# EAGLE library part SJ-3506-SMT-TR (library Connectors)
CONN JACK STEREO 3.5MM SMD R/A Manufacturer's datasheet <https://www.cui.com/product/resource/digikeypdf/sj-3506-smt-tr.pdf>
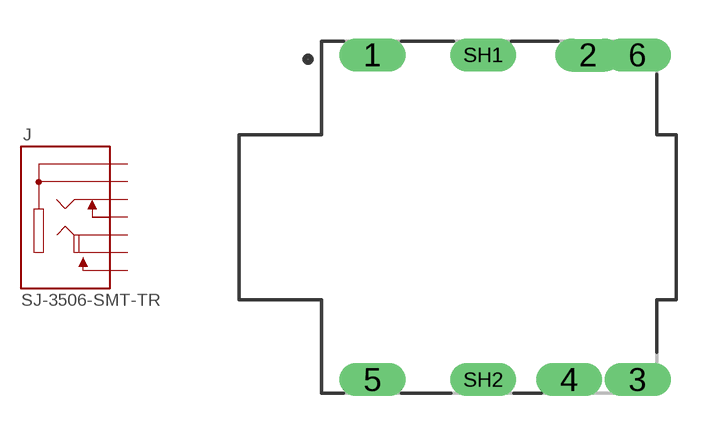
[diagram p7: symbol with the pads of SJ-3506-SMT-TR; footprint SJ-3506-SMT-TR]

Designator prefix J

## SJ-3506-SMT-TR (CREATED_BY: PCBLayout.com; DIGIKEY_PART_NUMBER: CP-3506SJCT-ND; MANUFACTURER: CUI Inc.; MPN: SJ-3506-SMT-TR)  [SJ-3506-SMT-TR]
1  1  pas
2  2  pas
3  3  pas
4  4  pas
5  5  pas
6  6  pas
SH1  SHIELD  pas
SH2  SHIELD  pas

## Footprint SJ-3506-SMT-TR (pad centres in mm)
drill 0.7 pad 0.8 long: 1 -4.25,5.9; 2 3.6,5.9; 3 5.4,-5.9; 4 2.9,-5.9; 5 -4.25,-5.9; 6 5.4,5.9; SH1 -0.22,5.9; SH2 -0.22,-5.9